# EAGLE library part SS-52300-001 (library maus)
USB Connectors USB 2.0 RA Receptacle Type B Source: Datasheet <https://belfuse.com/resources/datasheets/stewartconnector/ds-stw-usb-2.0-type-b-connectors.pdf>
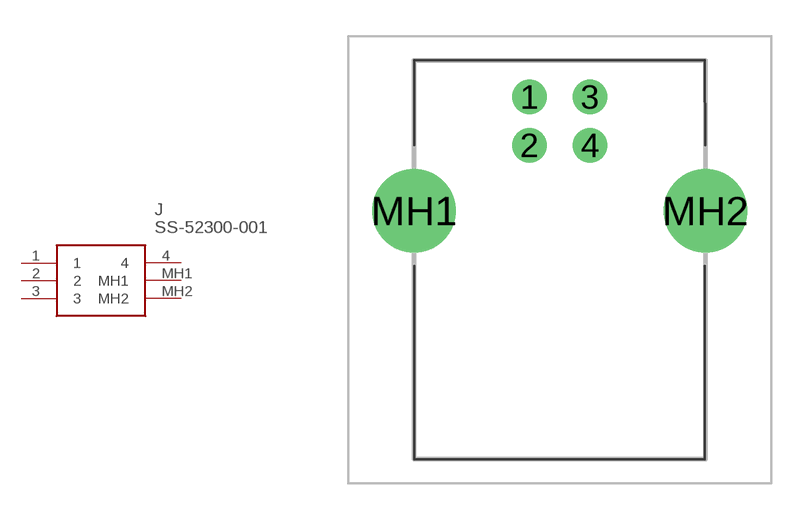
[diagram p8: symbol with the pads of SS52300001; footprint SS52300001]

Designator prefix J

## SS-52300-001 (DESCRIPTION: USB Connectors USB 2.0 RA Receptacle Type B; HEIGHT: 10.82mm; MANUFACTURER_NAME: Bel; MANUFACTURER_PART_NUMBER: SS-52300-001; MOUSER_PART_NUMBER: 530-SS-52300-001)  [SS52300001]
1  1
2  2
3  3
4  4
MH1  MH1
MH2  MH2

## Footprint SS52300001 (pad centres in mm)
SS-52300-001-1
drill 0.92 pad 1.431: 1 0,0; 2 0,-2; 3 2.5,0; 4 2.5,-2
drill 2.3 pad 3.45: MH1 -4.77,-4.71; MH2 7.27,-4.71